# Altium footprint library Example.PcbLib: 1 footprints
Each footprint in its own frame and in the unit in brackets; x right, y up, seen from the top. Pads: shape width x height; smd on the part's side, far side on the other; paste and mask are expansions set on the pad; w line width, h text height; cw(c..) or ccw(c..) is an arc to the next point about the centre after c.
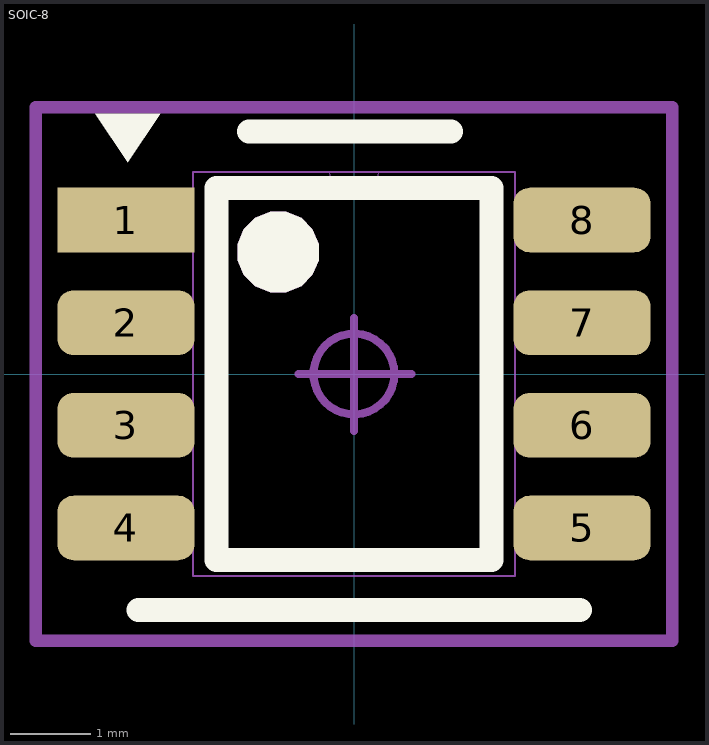
[diagram p0: the footprint, top view; thin cyan lines are the x and y axes]

## SOIC-8 [mm]
pads (8):
  rect 1.7x0.8 smd: 1(-2.821,1.905)
  rrect50% 1.7x0.8 smd: 2(-2.821,0.635) 3(-2.821,-0.635) 4(-2.821,-1.905) 5(2.821,-1.905) 6(2.821,-0.635) 7(2.821,0.635) 8(2.821,1.905)
Top Overlay:
  region: -2.399,3.222 -3.199,3.222 -2.799,2.622
  region: -1.438,1.509 -1.438,1.409 -1.362,1.225 -1.221,1.085 -1.038,1.009 -0.938,1.009 -0.839,1.009 -0.655,1.085 -0.514,1.225 -0.438,1.409 -0.438,1.509 -0.438,1.608 -0.514,1.792 -0.655,1.933 -0.839,2.009 -0.938,2.009 -1.038,2.009 -1.221,1.933 -1.362,1.792 -1.438,1.608
  lines w0.3: -2.667,-2.921 2.794,-2.921 ; -1.3,3 1.2,3 ; -1.7,-2.3 -1.7,2.3 1.7,2.3 1.7,-2.3 -1.7,-2.3
Top Assembly:
  region: -1.438,1.509 -1.438,1.409 -1.362,1.225 -1.221,1.085 -1.038,1.009 -0.938,1.009 -0.839,1.009 -0.655,1.085 -0.514,1.225 -0.438,1.409 -0.438,1.509 -0.438,1.608 -0.514,1.792 -0.655,1.933 -0.839,2.009 -0.938,2.009 -1.038,2.009 -1.221,1.933 -1.362,1.792 -1.438,1.608
  lines w0: -0.305,2.502 ccw(c0,2.502) 0.305,2.502
  lines w0.025: -3.099,-2.146 -1.994,-2.146 -1.994,-1.664 -3.099,-1.664 -3.099,-2.146 ; -3.099,-0.876 -1.994,-0.876 -1.994,-0.394 -3.099,-0.394 -3.099,-0.876 ; -3.099,0.394 -3.099,0.876 -1.994,0.876 -1.994,0.394 -3.099,0.394 ; -3.099,1.664 -1.994,1.664 -1.994,2.146 -3.099,2.146 -3.099,1.664 ; -1.994,-2.502 -1.994,2.502 1.994,2.502 1.994,-2.502 -1.994,-2.502 ; 1.994,-2.146 3.099,-2.146 3.099,-1.664 1.994,-1.664 1.994,-2.146 ; 1.994,-0.876 3.099,-0.876 3.099,-0.394 1.994,-0.394 1.994,-0.876 ; 1.994,0.394 3.099,0.394 3.099,0.876 1.994,0.876 1.994,0.394 ; 1.994,1.664 3.099,1.664 3.099,2.146 1.994,2.146 1.994,1.664
Top Component Outline:
  lines w0.152: -3.937,-3.302 -3.937,3.302 3.937,3.302 3.937,-3.302 -3.937,-3.302
Top Component Center:
  circle w0.1: c0,0 r0.5
  lines w0.1: -0.686,0 0.711,0 ; -0.001,-0.706 -0.001,0.691
3D body "SOIC-8.stp": height 1.76, standoff 0, extent -3.499,-2.502 3.499,2.502